# Altium integrated library BAT-HLD-001-THM.IntLib: 1 symbol
Pins are listed as number, name and electrical type; pins without a type are passive.

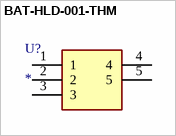
[diagram p0: symbol BAT-HLD-001-THM]

## BAT-HLD-001-THM
designator U?
Undefined or Miscellaneous; Manufacturer_Name: Linx Technologies; Manufacturer_Part_Number: BAT-HLD-001-THM; Description: Coin Cell Battery Holders Bat Hld CR2032/2025 Through-hole Mount; Datasheet Link: http://www.mouser.com/datasheet/2/238/BAT-HLD-001-THM Diagram-1175214.pdf; Height: 4.2mm; Mouser Part Number: 712-BAT-HLD-001-THM; Mouser Price/Stock: https://www.mouser.com/Search/Refine.aspx?Keyword=712-BAT-HLD-001-THM
footprint BATHLD001THM
pins: 1, 2, 3, 4, 5